# Altium footprint library PcbLib2.PcbLib: 3 footprints
Each footprint in its own frame and in the unit in brackets; x right, y up, seen from the top. Pads: shape width x height; smd on the part's side, far side on the other; paste and mask are expansions set on the pad; w line width, h text height; cw(c..) or ccw(c..) is an arc to the next point about the centre after c.
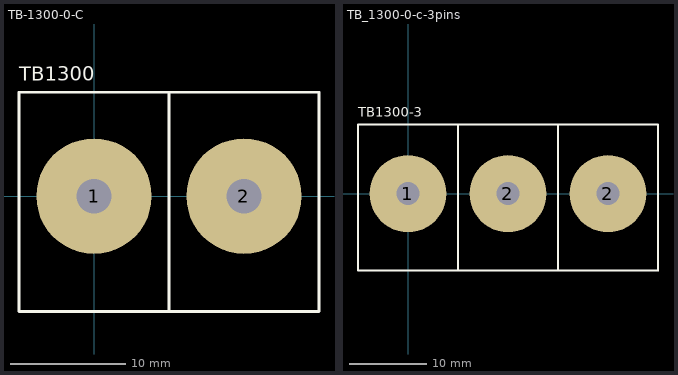
[diagram p0: the footprints below, top view; thin cyan lines are the x and y axes]

## PCBComponent_1 [mm]

## TB-1300-0-C [mm] "terminal block"
pads (2):
  round 10 hole 3: 1(0,0) 2(13,0)
Top Overlay:
  lines w0.254: 6.5,-10 6.5,9 ; -6.5,-10 -3,-10 19.5,-10 19.5,9 -3,9 -6.5,9 -6.5,-10
  text "TB1300" at -6.5,10 h1.22

## TB_1300-0-c-3pins [mm]
pads (3):
  round 10 hole 3: 1(0,0) 2(13,0) 2(26,0)
Top Overlay:
  lines w0.254: 6.5,-10 6.5,9 ; 19.5,-10 19.5,9 ; 19.5,-10 -3,-10 -6.5,-10 -6.5,9 -3,9 19.5,9 ; 19.5,-10 32.5,-10 ; 19.5,9 32.5,9 32.5,-10 ; 32.5,-10 32.5,-10
  text "TB1300-3" at -6.5,10 h1.22